# Altium schematic symbol library MH_DA_THU_VIEN_16122016.SchLib: 853 symbols (part 5 of 5)
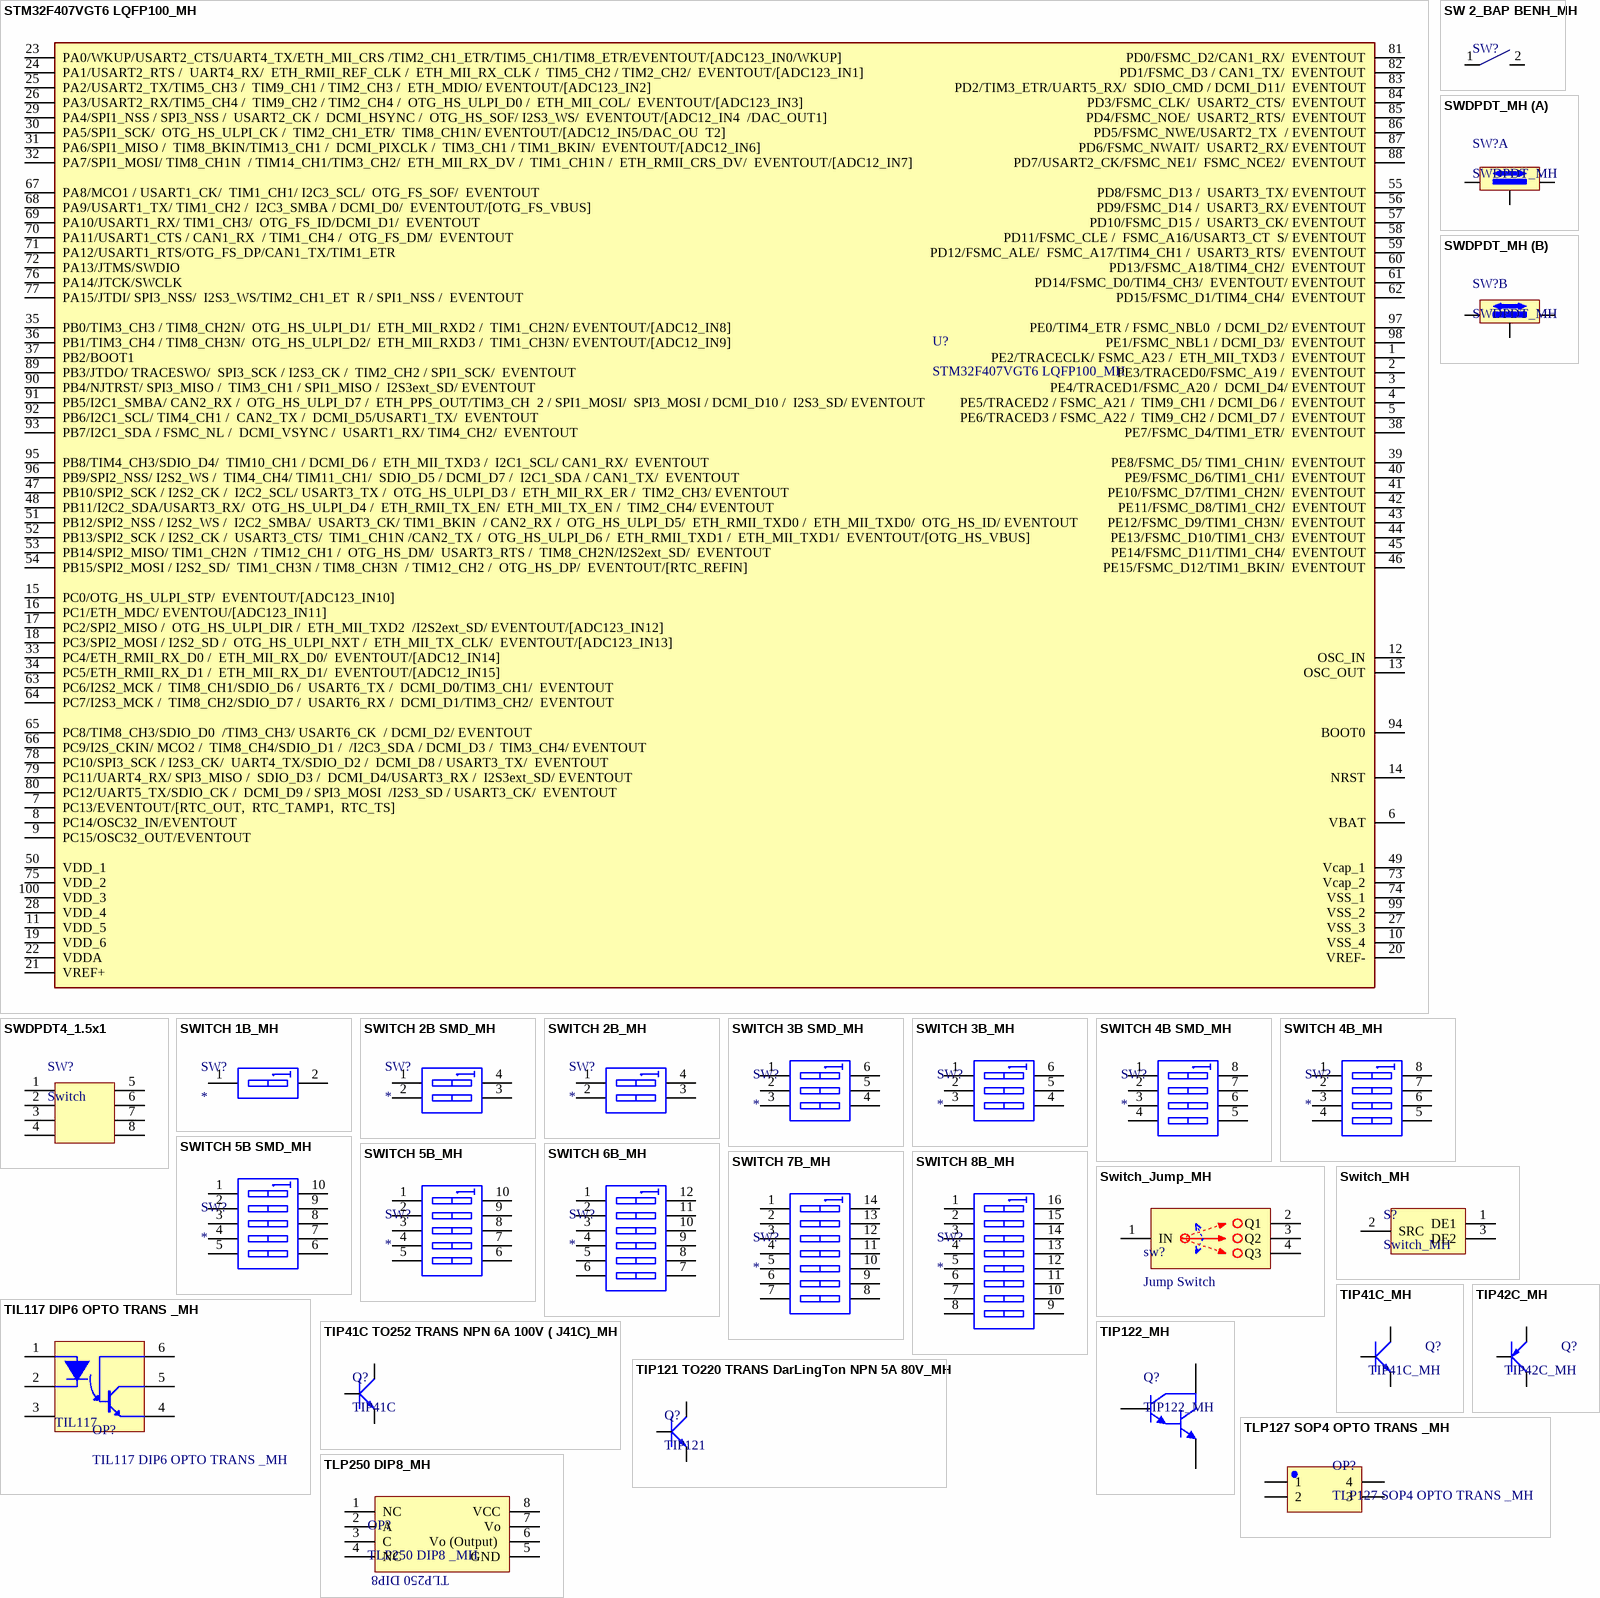
[diagram p44: symbols STM32F407VGT6 LQFP100_MH to TLP250 DIP8_MH]

## STM32F407VGT6 LQFP100_MH
designator U?
footprint LQFP 100
pins: 1 PE2/TRACECLK/ FSMC_A23 /  ETH_MII_TXD3 /  EVENTOUT, 2 PE3/TRACED0/FSMC_A19 /  EVENTOUT, 3 PE4/TRACED1/FSMC_A20 /  DCMI_D4/ EVENTOUT, 4 PE5/TRACED2 / FSMC_A21 /  TIM9_CH1 / DCMI_D6 /  EVENTOUT, 5 PE6/TRACED3 / FSMC_A22 /  TIM9_CH2 / DCMI_D7 /  EVENTOUT, 6 VBAT, 7 PC13/EVENTOUT/[RTC_OUT,  RTC_TAMP1,  RTC_TS], 8 PC14/OSC32_IN/EVENTOUT, 9 PC15/OSC32_OUT/EVENTOUT, 10 VSS_4, 11 VDD_5, 12 OSC_IN, 13 OSC_OUT, 14 NRST, 15 PC0/OTG_HS_ULPI_STP/  EVENTOUT/[ADC123_IN10], 16 PC1/ETH_MDC/ EVENTOU/[ADC123_IN11], 17 PC2/SPI2_MISO /  OTG_HS_ULPI_DIR /  ETH_MII_TXD2  /I2S2ext_SD/ EVENTOUT/[ADC123_IN12], 18 PC3/SPI2_MOSI / I2S2_SD /  OTG_HS_ULPI_NXT /  ETH_MII_TX_CLK/  EVENTOUT/[ADC123_IN13], 19 VDD_6, 20 VREF-, 21 VREF+, 22 VDDA, 23 PA0/WKUP/USART2_CTS/UART4_TX/ETH_MII_CRS /TIM2_CH1_ETR/TIM5_CH1/TIM8_ETR/EVENTOUT/[ADC123_IN0/WKUP], 24 PA1/USART2_RTS /  UART4_RX/  ETH_RMII_REF_CLK /  ETH_MII_RX_CLK /  TIM5_CH2 / TIM2_CH2/  EVENTOUT/[ADC123_IN1], 25 PA2/USART2_TX/TIM5_CH3 /  TIM9_CH1 / TIM2_CH3 /  ETH_MDIO/ EVENTOUT/[ADC123_IN2], 26 PA3/USART2_RX/TIM5_CH4 /  TIM9_CH2 / TIM2_CH4 /  OTG_HS_ULPI_D0 /  ETH_MII_COL/  EVENTOUT/[ADC123_IN3], 27 VSS_3, 28 VDD_4, 29 PA4/SPI1_NSS / SPI3_NSS /  USART2_CK /  DCMI_HSYNC /  OTG_HS_SOF/ I2S3_WS/  EVENTOUT/[ADC12_IN4  /DAC_OUT1], 30 PA5/SPI1_SCK/  OTG_HS_ULPI_CK /  TIM2_CH1_ETR/  TIM8_CH1N/ EVENTOUT/[ADC12_IN5/DAC_OU  T2], 31 PA6/SPI1_MISO /  TIM8_BKIN/TIM13_CH1 /  DCMI_PIXCLK /  TIM3_CH1 / TIM1_BKIN/  EVENTOUT/[ADC12_IN6], 32 PA7/SPI1_MOSI/ TIM8_CH1N  / TIM14_CH1/TIM3_CH2/  ETH_MII_RX_DV /  TIM1_CH1N /  ETH_RMII_CRS_DV/  EVENTOUT/[ADC12_IN7], 33 PC4/ETH_RMII_RX_D0 /  ETH_MII_RX_D0/  EVENTOUT/[ADC12_IN14], 34 PC5/ETH_RMII_RX_D1 /  ETH_MII_RX_D1/  EVENTOUT/[ADC12_IN15], 35 PB0/TIM3_CH3 / TIM8_CH2N/  OTG_HS_ULPI_D1/  ETH_MII_RXD2 /  TIM1_CH2N/ EVENTOUT/[ADC12_IN8], 36 PB1/TIM3_CH4 / TIM8_CH3N/  OTG_HS_ULPI_D2/  ETH_MII_RXD3 /  TIM1_CH3N/ EVENTOUT/[ADC12_IN9], 37 PB2/BOOT1  , 38 PE7/FSMC_D4/TIM1_ETR/  EVENTOUT, 39 PE8/FSMC_D5/ TIM1_CH1N/  EVENTOUT, 40 PE9/FSMC_D6/TIM1_CH1/  EVENTOUT, 41 PE10/FSMC_D7/TIM1_CH2N/  EVENTOUT, 42 PE11/FSMC_D8/TIM1_CH2/  EVENTOUT, 43 PE12/FSMC_D9/TIM1_CH3N/  EVENTOUT, 44 PE13/FSMC_D10/TIM1_CH3/  EVENTOUT, 45 PE14/FSMC_D11/TIM1_CH4/  EVENTOUT, 46 PE15/FSMC_D12/TIM1_BKIN/  EVENTOUT, 47 PB10/SPI2_SCK / I2S2_CK /  I2C2_SCL/ USART3_TX /  OTG_HS_ULPI_D3 /  ETH_MII_RX_ER /  TIM2_CH3/ EVENTOUT, 48 PB11/I2C2_SDA/USART3_RX/  OTG_HS_ULPI_D4 /  ETH_RMII_TX_EN/  ETH_MII_TX_EN /  TIM2_CH4/ EVENTOUT, 49 Vcap_1, 50 VDD_1, 51 PB12/SPI2_NSS / I2S2_WS /  I2C2_SMBA/  USART3_CK/ TIM1_BKIN  / CAN2_RX /  OTG_HS_ULPI_D5/  ETH_RMII_TXD0 /  ETH_MII_TXD0/  OTG_HS_ID/ EVENTOUT, 52 PB13/SPI2_SCK / I2S2_CK /  USART3_CTS/  TIM1_CH1N /CAN2_TX /  OTG_HS_ULPI_D6 /  ETH_RMII_TXD1 /  ETH_MII_TXD1/  EVENTOUT/[OTG_HS_VBUS], 53 PB14/SPI2_MISO/ TIM1_CH2N  / TIM12_CH1 /  OTG_HS_DM/  USART3_RTS /  TIM8_CH2N/I2S2ext_SD/  EVENTOUT, 54 PB15/SPI2_MOSI / I2S2_SD/  TIM1_CH3N / TIM8_CH3N  / TIM12_CH2 /  OTG_HS_DP/  EVENTOUT/[RTC_REFIN], 55 PD8/FSMC_D13 /  USART3_TX/ EVENTOUT, 56 PD9/FSMC_D14 /  USART3_RX/ EVENTOUT, 57 PD10/FSMC_D15 /  USART3_CK/ EVENTOUT, 58 PD11/FSMC_CLE /  FSMC_A16/USART3_CT  S/ EVENTOUT, 59 PD12/FSMC_ALE/  FSMC_A17/TIM4_CH1 /  USART3_RTS/  EVENTOUT, 60 PD13/FSMC_A18/TIM4_CH2/  EVENTOUT, 61 PD14/FSMC_D0/TIM4_CH3/  EVENTOUT/ EVENTOUT, 62 PD15/FSMC_D1/TIM4_CH4/  EVENTOUT, 63 PC6/I2S2_MCK /  TIM8_CH1/SDIO_D6 /  USART6_TX /  DCMI_D0/TIM3_CH1/  EVENTOUT, 64 PC7/I2S3_MCK /  TIM8_CH2/SDIO_D7 /  USART6_RX /  DCMI_D1/TIM3_CH2/  EVENTOUT, 65 PC8/TIM8_CH3/SDIO_D0  /TIM3_CH3/ USART6_CK  / DCMI_D2/ EVENTOUT, 66 PC9/I2S_CKIN/ MCO2 /  TIM8_CH4/SDIO_D1 /  /I2C3_SDA / DCMI_D3 /  TIM3_CH4/ EVENTOUT, 67 PA8/MCO1 / USART1_CK/  TIM1_CH1/ I2C3_SCL/  OTG_FS_SOF/  EVENTOUT, 68 PA9/USART1_TX/ TIM1_CH2 /  I2C3_SMBA / DCMI_D0/  EVENTOUT/[OTG_FS_VBUS], 69 PA10/USART1_RX/ TIM1_CH3/  OTG_FS_ID/DCMI_D1/  EVENTOUT, 70 PA11/USART1_CTS / CAN1_RX  / TIM1_CH4 /  OTG_FS_DM/  EVENTOUT, 71 PA12/USART1_RTS/OTG_FS_DP/CAN1_TX/TIM1_ETR  , 72 PA13/JTMS/SWDIO  , 73 Vcap_2, 74 VSS_1, 75 VDD_2, 76 PA14/JTCK/SWCLK  , 77 PA15/JTDI/ SPI3_NSS/  I2S3_WS/TIM2_CH1_ET  R / SPI1_NSS /  EVENTOUT, 78 PC10/SPI3_SCK / I2S3_CK/  UART4_TX/SDIO_D2 /  DCMI_D8 / USART3_TX/  EVENTOUT, 79 PC11/UART4_RX/ SPI3_MISO /  SDIO_D3 /  DCMI_D4/USART3_RX /  I2S3ext_SD/ EVENTOUT, 80 PC12/UART5_TX/SDIO_CK /  DCMI_D9 / SPI3_MOSI  /I2S3_SD / USART3_CK/  EVENTOUT, 81 PD0/FSMC_D2/CAN1_RX/  EVENTOUT, 82 PD1/FSMC_D3 / CAN1_TX/  EVENTOUT, 83 PD2/TIM3_ETR/UART5_RX/  SDIO_CMD / DCMI_D11/  EVENTOUT, 84 PD3/FSMC_CLK/  USART2_CTS/  EVENTOUT, 85 PD4/FSMC_NOE/  USART2_RTS/  EVENTOUT, 86 PD5/FSMC_NWE/USART2_TX  / EVENTOUT, 87 PD6/FSMC_NWAIT/  USART2_RX/ EVENTOUT, 88 PD7/USART2_CK/FSMC_NE1/  FSMC_NCE2/  EVENTOUT, 89 PB3/JTDO/ TRACESWO/  SPI3_SCK / I2S3_CK /  TIM2_CH2 / SPI1_SCK/  EVENTOUT, 90 PB4/NJTRST/ SPI3_MISO /  TIM3_CH1 / SPI1_MISO /  I2S3ext_SD/ EVENTOUT, 91 PB5/I2C1_SMBA/ CAN2_RX /  OTG_HS_ULPI_D7 /  ETH_PPS_OUT/TIM3_CH  2 / SPI1_MOSI/  SPI3_MOSI / DCMI_D10 /  I2S3_SD/ EVENTOUT, 92 PB6/I2C1_SCL/ TIM4_CH1 /  CAN2_TX /  DCMI_D5/USART1_TX/  EVENTOUT, 93 PB7/I2C1_SDA / FSMC_NL /  DCMI_VSYNC /  USART1_RX/ TIM4_CH2/  EVENTOUT, 94 BOOT0, 95 PB8/TIM4_CH3/SDIO_D4/  TIM10_CH1 / DCMI_D6 /  ETH_MII_TXD3 /  I2C1_SCL/ CAN1_RX/  EVENTOUT, 96 PB9/SPI2_NSS/ I2S2_WS /  TIM4_CH4/ TIM11_CH1/  SDIO_D5 / DCMI_D7 /  I2C1_SDA / CAN1_TX/  EVENTOUT, 97 PE0/TIM4_ETR / FSMC_NBL0  / DCMI_D2/ EVENTOUT, 98 PE1/FSMC_NBL1 / DCMI_D3/  EVENTOUT, 99 VSS_2, 100 VDD_3

## SW 2_BAP BENH_MH
designator SW?  (value not drawn)
Công tắc bập bênh 2 chân MH001568
footprint SW2_ BAP BENH (Công t?c b?p bênh 2 chân MH004585)
pins: 1, 2

## SWDPDT4_1.5x1
designator SW?, comment Switch
Switch 1-3 x2
footprint SWDPDT4_1.5x1 (Switch 3 DPDT, Pin to Pin 150mil, Row to Row 100mil)
pins: 1, 2, 3, 4, 5, 6, 7, 8

## SWDPDT_MH
designator SW?
Switch SPDT; Creat by: VanDungEvn@Gmail.com
footprint SWDPDT_1.5x1 (Switch DPDT, Pin to Pin 150mil, Row to Row 100mil)
footprint SWDPDT_1.5x2 (Switch DPDT, Pin to Pin 150mil, Row to Row 200mil)
part A pins: 1, 2, 3
part B pins: 4, 5, 6

## SWITCH 1B_MH
designator SW?
Công tắc bit, 1Bit
footprint SWITCH 1B
pins: 1 A1, 2 B1

## SWITCH 2B SMD_MH
designator SW?
Công tắc bit, 2Bit, dán
footprint SWITCH 2B SMD
pins: 1 A1, 2 A2, 3 B2, 4 B1

## SWITCH 2B_MH
designator SW?
Công tắc bit, 2Bit
footprint SWITCH 2B
pins: 1 A1, 2 A2, 3 B2, 4 B1

## SWITCH 3B SMD_MH
designator SW?
Công tắc bit, 3Bit, dán
footprint SWITCH 3B SMD
pins: 1 A1, 2 A2, 3 A3, 4 B3, 5 B2, 6 B1

## SWITCH 3B_MH
designator SW?
Công tắc bit, 3Bit
footprint SWITCH 3B
pins: 1 A1, 2 A2, 3 A3, 4 B3, 5 B2, 6 B1

## SWITCH 4B SMD_MH
designator SW?
Công tắc bit, 4Bit, dán
footprint SWITCH 4B SMD
pins: 1 A1, 2 A2, 3 A3, 4 A4, 5 B4, 6 B3, 7 B2, 8 B1

## SWITCH 4B_MH
designator SW?
Công tắc bit, 4Bit
footprint SWITCH 4B
pins: 1 A1, 2 A2, 3 A3, 4 A4, 5 B4, 6 B3, 7 B2, 8 B1

## SWITCH 5B SMD_MH
designator SW?
Công tắc bit, 5Bit, dán
footprint SWITCH 5B SMD
pins: 1 A1, 2 A2, 3 A3, 4 A4, 5 A5, 6 B5, 7 B4, 8 B3, 9 B2, 10 B1

## SWITCH 5B_MH
designator SW?
Công tắc bit, 5Bit
footprint SWITCH 5B
pins: 1 A1, 2 A2, 3 A3, 4 A4, 5 A5, 6 B5, 7 B4, 8 B3, 9 B2, 10 B1

## SWITCH 6B_MH
designator SW?
Công tắc bit, 6Bit
footprint SWITCH 6B
pins: 1 A1, 2 A2, 3 A3, 4 A4, 5 A5, 6 A6, 7 B6, 8 B5, 9 B4, 10 B3, 11 B2, 12 B1

## SWITCH 7B_MH
designator SW?
Công tắc bit, 7Bit
footprint SWITCH 7B
pins: 1 A1, 2 A2, 3 A3, 4 A4, 5 A5, 6 A6, 7 A7, 8 B7, 9 B6, 10 B5, 11 B4, 12 B3, 13 B2, 14 B1

## SWITCH 8B_MH
designator SW?
Công tắc bit, 8Bit
footprint SWITCH 8B
pins: 1 A1, 2 A2, 3 A3, 4 A4, 5 A5, 6 A6, 7 A7, 8 A8, 9 B8, 10 B7, 11 B6, 12 B5, 13 B4, 14 B3, 15 B2, 16 B1

## Switch_Jump_MH
designator sw?, comment Jump Switch
footprint SW-Jump
pins: 1 IN, 2 Q1, 3 Q2, 4 Q3

## Switch_MH
designator S?
Switch
footprint Switch
pins: 1 DE1, 2 SRC, 3 DE2, 4 hidden to GND, 5 hidden to GND

## TIL117 DIP6 OPTO TRANS _MH
designator OP?
footprint DIP6 (6 PIN, W 300mil, Pin to pin 100mil)
pins: 1 "Anot", 2 "Katot", 3, 4, 5, 6
text: TIL117

## TIP41C TO252 TRANS NPN 6A 100V ( J41C)_MH
designator Q?, comment TIP41C
footprint TO252
pins: 1 B, 2 C, 3 E

## TIP41C_MH
designator Q?
NPN 2W, BCE; Value: TIP41C
footprint TO220
pins: 1 B, 2 C, 3 E

## TIP42C_MH
designator Q?
PNP 2W, BCE; Value: TIP42C
footprint TO220
pins: 1 B, 2 C, 3 E

## TIP121 TO220 TRANS DarLingTon NPN 5A 80V_MH
designator Q?, comment TIP121
footprint TO220
pins: 1 B, 2 C, 3 E

## TIP122_MH
designator Q?
Darlington Silicon Power NPN Transistor, 8 Amp, 100 Volts and 65 Watts
footprint TO220
pins: 1 B, 2 C, 3 E

## TLP127 SOP4 OPTO TRANS _MH
designator OP?
footprint OP SOP4
pins: 1, 2, 3, 4

## TLP250 DIP8_MH
designator OP?, comment TLP250 DIP8 _MH
TLP250 DIP8_MH
footprint DIP8 (W.300/L.400)
pins: 1 NC, 2 A, 3 C, 4 NC, 5 GND, 6  Vo (Output) , 7 Vo, 8 VCC
text: TLP250 DIP8

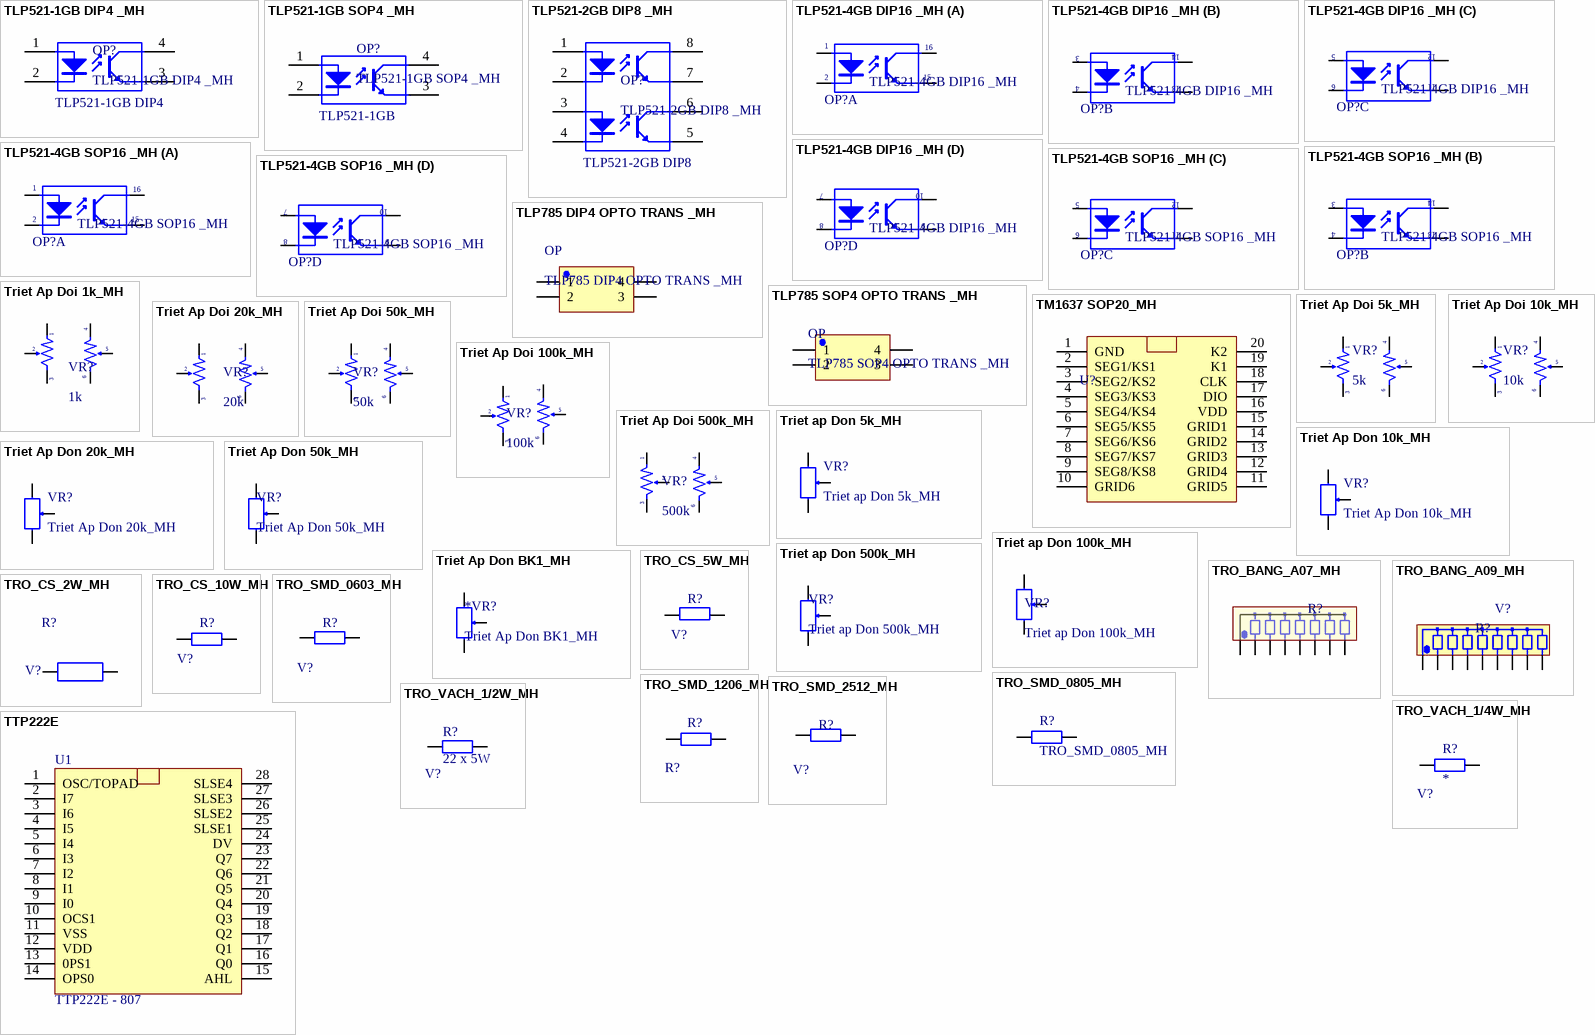
[diagram p36: symbols TLP521-1GB DIP4 _MH to TTP222E]

## TLP521-1GB DIP4 _MH
designator OP?
footprint DIP4 (W.300/L.400)
pins: 1, 2, 3, 4
text: TLP521-1GB DIP4

## TLP521-1GB SOP4 _MH
designator OP?
footprint OP SOP4
pins: 1, 2, 3, 4
text: TLP521-1GB

## TLP521-2GB DIP8 _MH
designator OP?
footprint DIP8 (W.300/L.400)
pins: 1, 2, 3, 4, 5, 6, 7, 8
text: TLP521-2GB DIP8

## TLP521-4GB DIP16 _MH
designator OP?
Value: TLP521-4
footprint DIP16 (16 PIN, W 300mil, Pin to pin 100mil)
part A pins: 1 A "Anode", 2 K "Cathode", 15 E "Emitter", 16 C "Collector"
part B pins: 3 A "Anode", 4 K "Cathode", 13 E "Emitter", 14 C "Collector"
part C pins: 5 A "Anode", 6 K "Cathode", 11 E "Emitter", 12 C "Collector"
part D pins: 7 A "Anode", 8 K "Cathode", 9 E "Emitter", 10 C "Collector"

## TLP521-4GB SOP16 _MH
designator OP?
Value: TLP521-4
footprint SOP16 (Small Outline; 16 Leads; Body Width 5.6 mm; Pitch 1.27 mm)
part A pins: 1 A "Anode", 2 K "Cathode", 15 E "Emitter", 16 C "Collector"
part B pins: 3 A "Anode", 4 K "Cathode", 13 E "Emitter", 14 C "Collector"
part C pins: 5 A "Anode", 6 K "Cathode", 11 E "Emitter", 12 C "Collector"
part D pins: 7 A "Anode", 8 K "Cathode", 9 E "Emitter", 10 C "Collector"

## TLP785 DIP4 OPTO TRANS _MH
designator OP
footprint DIP4 (W.300/L.400)
pins: 1, 2, 3, 4

## TLP785 SOP4 OPTO TRANS _MH
designator OP
OPTO
footprint OP SOP4
pins: 1, 2, 3, 4

## TM1637 SOP20_MH
designator U?  (value not drawn)
DRIVER LED 7 SEG
footprint SOP-20
pins: 1 GND, 2 SEG1/KS1, 3 SEG2/KS2, 4 SEG3/KS3, 5 SEG4/KS4, 6 SEG5/KS5, 7 SEG6/KS6, 8 SEG7/KS7, 9 SEG8/KS8, 10 GRID6, 11 GRID5, 12 GRID4, 13 GRID3, 14 GRID2, 15 GRID1, 16 VDD, 17 DIO, 18 CLK, 19 K1, 20 K2

## Triet Ap Doi 1k_MH
designator VR?, comment 1k
Triet Ap Doi 1k
footprint VR2-B
pins: 1, 2, 3, 4, 5, 6

## Triet Ap Doi 5k_MH
designator VR?, comment 5k
Triet Ap Doi 5k
footprint VR2-B
pins: 1, 2, 3, 4, 5, 6

## Triet Ap Doi 10k_MH
designator VR?, comment 10k
Triet Ap Doi 10k
footprint VR2-B
pins: 1, 2, 3, 4, 5, 6

## Triet Ap Doi 20k_MH
designator VR?, comment 20k
Triet Ap Doi 20k
footprint VR2-B
pins: 1, 2, 3, 4, 5, 6

## Triet Ap Doi 50k_MH
designator VR?, comment 50k
Triet Ap Doi 50k
footprint VR2-B
pins: 1, 2, 3, 4, 5, 6

## Triet Ap Doi 100k_MH
designator VR?, comment 100k
Triet Ap Doi 100k
footprint VR2-B
pins: 1, 2, 3, 4, 5, 6

## Triet Ap Doi 500k_MH
designator VR?, comment 500k
Triet Ap Doi 500k
footprint VR2-B
pins: 1, 2, 3, 4, 5, 6

## Triet ap Don 5k_MH
designator VR?
Triet ap Don 5k
footprint VR1-bk
pins: 1, 2, 3

## Triet Ap Don 10k_MH
designator VR?
Triet Ap Don 10k
footprint VR1-bk
pins: 1, 2, 3

## Triet Ap Don 20k_MH
designator VR?
Triet Ap Don 20k
footprint VR1-bk
pins: 1, 2, 3

## Triet Ap Don 50k_MH
designator VR?
Triet Ap Don 50k
footprint VR1-bk
pins: 1, 2, 3

## Triet ap Don 100k_MH
designator VR?
Triet ap Don 100k
footprint VR1-bk
pins: 1, 2, 3

## Triet ap Don 500k_MH
designator VR?
Triet ap Don 500k
footprint VR1-bk
pins: 1, 2, 3

## Triet Ap Don BK1_MH
designator *VR?
Triet Ap Don BK1
footprint VR1-bk
pins: 1, 2, 3

## TRO_BANG_A07_MH
designator R?
footprint TRO_BANG_A07 (Footprint not found)
pins: 1, 2, 3, 4, 5, 6, 7, 8

## TRO_BANG_A09_MH
designator R?
footprint TRO_BANG_A09 (R SIP8, 9 Pin)
pins: 1, 2, 3, 4, 5, 6, 7, 8, 9
text: V?

## TRO_CS_2W_MH
designator R?  value V?
footprint TRO_VACH_2W
pins: 1, 2

## TRO_CS_5W_MH
designator R?
footprint TRO_CONG_SUAT_5W
pins: 1, 2
text: V?

## TRO_CS_10W_MH
designator R?
TRO_CONG_SUAT_10W
footprint TRO_CONG_SUAT_10W
pins: 1, 2
text: V?

## TRO_SMD_0603_MH
designator R?
footprint TRO_SMD_0603
pins: 1, 2
text: V?

## TRO_SMD_0805_MH
designator R?
footprint Tro SMD 0805
pins: 1, 2

## TRO_SMD_1206_MH
designator R?
footprint TRO_SMD_1206
pins: 1, 2

## TRO_SMD_2512_MH
designator R?
footprint TRO SMD 2512
pins: 1, 2
text: V?

## TRO_VACH_1/2W_MH
designator R?, comment 22 x 5W
Resistor; Value: 1K; Published: 8-Jun-2000; LatestRevisionDate: 17-Jul-2002; LatestRevisionNote: Re-released for DXP Platform.; Publisher: Altium Limited
footprint TRO_VACH_ 1/4W (R 1/4W, 2 Pin, 350mil)
pins: 1, 2
text: V?

## TRO_VACH_1/4W_MH
designator R?
footprint TRO_VACH_ 1/4W (R 1/4W, 2 Pin, 350mil)
pins: 1, 2
text: V?

## TTP222E
designator U1, comment TTP222E - 807
footprint TSSOP28
pins: 1 OSC/TOPAD "Description", 2 I7, 3 I6, 4 I5, 5 I4, 6 I3, 7 I2, 8 I1, 9 I0, 10 OCS1, 11 VSS, 12 VDD, 13 0PS1, 14 OPS0, 15 AHL, 16 Q0, 17 Q1, 18 Q2, 19 Q3, 20 Q4, 21 Q5, 22 Q6, 23 Q7, 24 DV, 25 SLSE1, 26 SLSE2, 27 SLSE3, 28 SLSE4

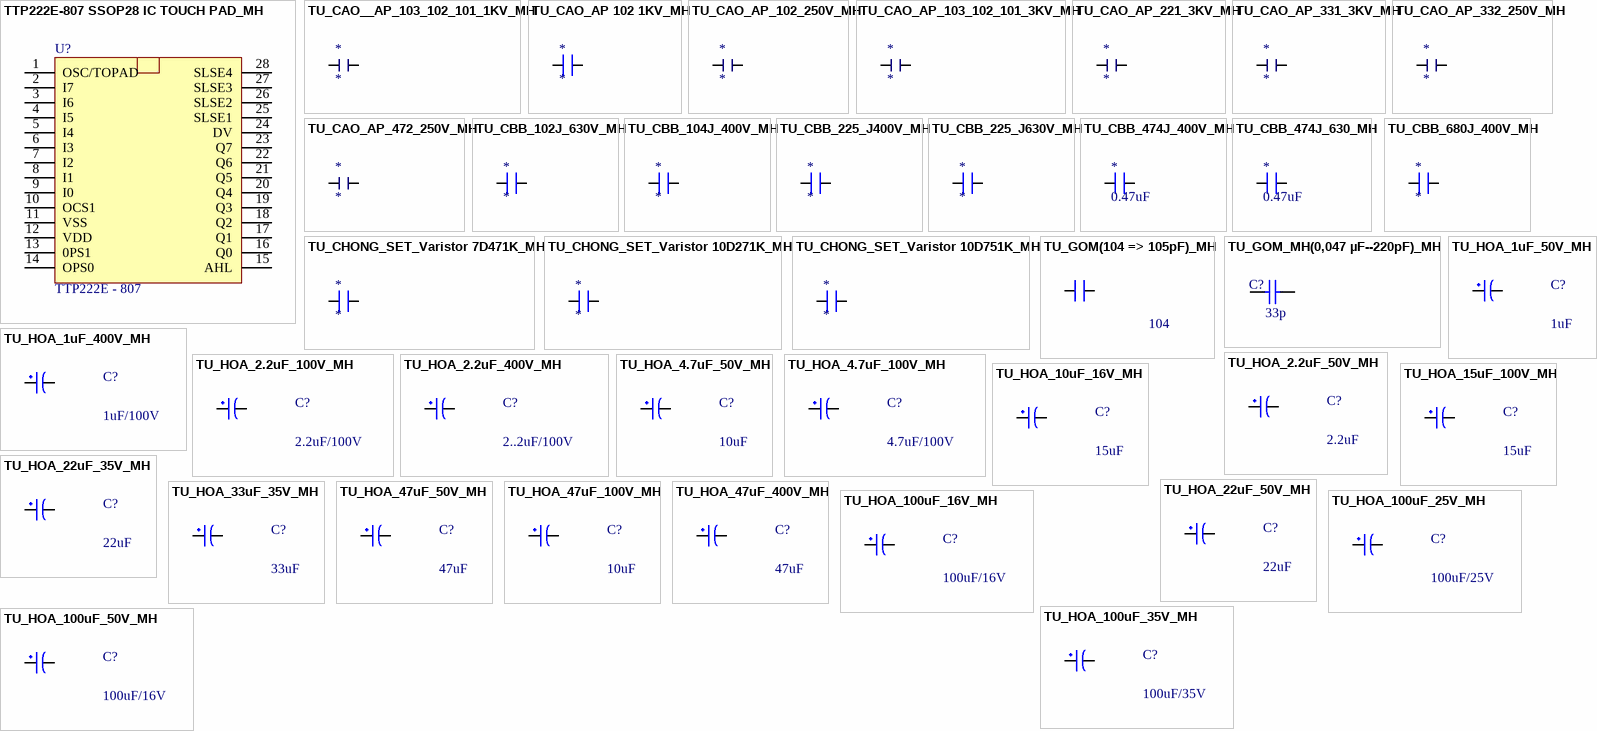
[diagram p37: symbols TTP222E-807 SSOP28 IC TOUCH PAD_MH to TU_HOA_100uF_50V_MH]

## TTP222E-807 SSOP28 IC TOUCH PAD_MH
designator U?, comment TTP222E - 807
footprint TSSOP28
pins: 1 OSC/TOPAD "Description", 2 I7, 3 I6, 4 I5, 5 I4, 6 I3, 7 I2, 8 I1, 9 I0, 10 OCS1, 11 VSS, 12 VDD, 13 0PS1, 14 OPS0, 15 AHL, 16 Q0, 17 Q1, 18 Q2, 19 Q3, 20 Q4, 21 Q5, 22 Q6, 23 Q7, 24 DV, 25 SLSE1, 26 SLSE2, 27 SLSE3, 28 SLSE4

## TU_CAO__AP_103_102_101_1KV_MH
designator *
Tu 104 103 102 101 1KV
footprint TU_TATA_5.08
pins: 1, 2

## TU_CAO_AP 102 1KV_MH
designator *
footprint TU_CAO_AP_1KV
pins: 1, 2

## TU_CAO_AP_102_250V_MH
designator *
Tụ Cao Áp 102 250V
footprint TU_CCB_10
pins: 1, 2

## TU_CAO_AP_103_102_101_3KV_MH
designator *
Tu 104 103 102 101 3KV
footprint TU_MICA_6_MH
pins: 1, 2

## TU_CAO_AP_221_3KV_MH
designator *
Tụ Cao Áp 221 3KV
footprint TU_MICA_6_MH
pins: 1, 2

## TU_CAO_AP_331_3KV_MH
designator *
Tụ Cao Áp 331 3KV
footprint TU_MICA_6_MH
pins: 1, 2

## TU_CAO_AP_332_250V_MH
designator *
Tụ Cao Áp 332 250V
footprint TU_MICA_6_MH
pins: 1, 2

## TU_CAO_AP_472_250V_MH
designator *
Tụ Cao Áp 472 250V
footprint TU_MICA_6_MH
pins: 1, 2

## TU_CBB_102J_630V_MH
designator *
TU_CBB_102J_630V_MH
footprint TU_CCB_10
pins: 1, 2

## TU_CBB_104J_400V_MH
designator *
TU_CBB_104J_400V_MH
footprint TU_CCB_10
pins: 1, 2

## TU_CBB_225_J400V_MH
designator *
footprint TU_CCB_225J400V
pins: 1, 2

## TU_CBB_225_J630V_MH
designator *
footprint TU_CCB_225J_630V _MH
pins: 1, 2

## TU_CBB_474J_400V_MH
designator *, comment 0.47uF
Tụ CBB 474J-0.47uF 400V 15MM
footprint TU_CCB_474J_400V
pins: 1, 2

## TU_CBB_474J_630_MH
designator *, comment 0.47uF
Tụ CBB 474J-0.47uF 630V 19MM
footprint TU_CCB_474J_630V
pins: 1, 2

## TU_CBB_680J_400V_MH
designator *
TU_CBB_680J_400V_MH
footprint TU_CCB_10
pins: 1, 2

## TU_CHONG_SET_Varistor 7D471K_MH
designator *
footprint TDA7294
pins: 1, 2

## TU_CHONG_SET_Varistor 10D271K_MH
designator *
footprint VARSISTOR_10D_14D (VARSISTOR_10D)
pins: 1, 2

## TU_CHONG_SET_Varistor 10D751K_MH
designator *
footprint VARSISTOR_10D_14D (VARSISTOR_10D)
pins: 1, 2

## TU_GOM(104 => 105pF)_MH
designator ?, comment 104
Value: 0.1uF
footprint TU_GOM(104-->105pF)
pins: 1, 2

## TU_GOM_MH(0,047 µF--220pF)_MH
designator C?, comment value 33p  (hidden comment: Capacitor Ceramic)
Capacitor; Published: 8-Jun-2000; LatestRevisionDate: 17-Jul-2002; LatestRevisionNote: Re-released for DXP Platform.; PackageReference: RAD-0.3; Publisher: Altium Limited
footprint TU_GOM (Tu gom mini)
pins: 1, 2

## TU_HOA_1uF_50V_MH
designator C?, comment 1uF
TU_HOA_1uF_50V; Value: 10uF/50V; Description 1: 10 => 220uF/6,3V/10V - 10uF => 100uF/16V; Description 2: 0,1uF => 33uF/50V - 10uF => 22uF/63V; Description 3: 0,47uF => 10uF/100V
footprint CP1/2 (Tu hoa < 22uF/16>50V)
footprint TU_HOA(1uF< 22uF/16>50V) (Tu hoa < 22uF/16>50V)
pins: 1, 2
1 alternate drawing of the same symbol

## TU_HOA_1uF_400V_MH
designator C?, comment 1uF/100V
TU_HOA_1uF_400V_MH; Value: 4700uF/50V
footprint CP2/5 (Tu hoa 1000uF/25V,50V)
pins: 1, 2

## TU_HOA_2.2uF_50V_MH
designator C?, comment 2.2uF
TU_HOA_2.2uF_50V; Value: 10uF/50V; Description 1: 10 => 220uF/6,3V/10V - 10uF => 100uF/16V; Description 2: 0,1uF => 33uF/50V - 10uF => 22uF/63V; Description 3: 0,47uF => 10uF/100V
footprint CP1/2 (Tu hoa < 22uF/16>50V)
footprint TU_HOA(1uF< 22uF/16>50V) (Tu hoa < 22uF/16>50V)
pins: 1, 2
1 alternate drawing of the same symbol

## TU_HOA_2.2uF_100V_MH
designator C?, comment 2.2uF/100V
TU_HOA_2.2uF_100V_MH; Value: 4700uF/50V
footprint CP1/3.0
footprint CP1/3.0
pins: 1, 2

## TU_HOA_2.2uF_400V_MH
designator C?, comment 2..2uF/100V
TU_HOA_2.2uF_400V_MH; Value: 4700uF/50V
footprint CP1/3.0
pins: 1, 2

## TU_HOA_4.7uF_50V_MH
designator C?, comment 10uF
Cap P  0,1uF < 22uF , 16 - 50V; Value: 10uF/50V; Description 1: 10 => 220uF/6,3V/10V - 10uF => 100uF/16V; Description 2: 0,1uF => 33uF/50V - 10uF => 22uF/63V; Description 3: 0,47uF => 10uF/100V
footprint CP1/2 (Tu hoa < 22uF/16>50V)
footprint TU_HOA(1uF< 22uF/16>50V) (Tu hoa < 22uF/16>50V)
pins: 1, 2
1 alternate drawing of the same symbol

## TU_HOA_4.7uF_100V_MH
designator C?, comment 4.7uF/100V
TU_HOA_4.7uF_100V_MH; Value: 4700uF/50V
footprint CP1/3.0
pins: 1, 2

## TU_HOA_10uF_16V_MH
designator C?, comment 15uF
TU_HOA_15uF_100V_MH; Value: 10uF/50V; Description 1: 10 => 220uF/6,3V/10V - 10uF => 100uF/16V; Description 2: 0,1uF => 33uF/50V - 10uF => 22uF/63V; Description 3: 0,47uF => 10uF/100V
footprint TU_NHOM_10uF_MH
pins: 1, 2
1 alternate drawing of the same symbol

## TU_HOA_15uF_100V_MH
designator C?, comment 15uF
TU_HOA_15uF_100V_MH; Value: 10uF/50V; Description 1: 10 => 220uF/6,3V/10V - 10uF => 100uF/16V; Description 2: 0,1uF => 33uF/50V - 10uF => 22uF/63V; Description 3: 0,47uF => 10uF/100V
footprint CP2/5 (Tu hoa 1000uF/25V,50V)
pins: 1, 2
1 alternate drawing of the same symbol

## TU_HOA_22uF_35V_MH
designator C?, comment 22uF
TU_HOA_22uF_35V; Value: 10uF/50V; Description 1: 10 => 220uF/6,3V/10V - 10uF => 100uF/16V; Description 2: 0,1uF => 33uF/50V - 10uF => 22uF/63V; Description 3: 0,47uF => 10uF/100V
footprint CP1/2 (Tu hoa < 22uF/16>50V)
footprint TU_HOA(1uF< 22uF/16>50V) (Tu hoa < 22uF/16>50V)
pins: 1, 2
1 alternate drawing of the same symbol

## TU_HOA_22uF_50V_MH
designator C?, comment 22uF
TU_HOA_22uF_50V; Value: 10uF/50V; Description 1: 10 => 220uF/6,3V/10V - 10uF => 100uF/16V; Description 2: 0,1uF => 33uF/50V - 10uF => 22uF/63V; Description 3: 0,47uF => 10uF/100V
footprint CP1/2 (Tu hoa < 22uF/16>50V)
footprint TU_HOA(1uF< 22uF/16>50V) (Tu hoa < 22uF/16>50V)
pins: 1, 2
1 alternate drawing of the same symbol

## TU_HOA_33uF_35V_MH
designator C?, comment 33uF
TU_HOA_33uF_35V; Value: 10uF/50V; Description 1: 10 => 220uF/6,3V/10V - 10uF => 100uF/16V; Description 2: 0,1uF => 33uF/50V - 10uF => 22uF/63V; Description 3: 0,47uF => 10uF/100V
footprint CP1/2 (Tu hoa < 22uF/16>50V)
footprint TU_HOA(1uF< 22uF/16>50V) (Tu hoa < 22uF/16>50V)
pins: 1, 2
1 alternate drawing of the same symbol

## TU_HOA_47uF_50V_MH
designator C?, comment 47uF
TU_HOA_47uF_50V; Value: 47uF/16 - 50V; Description 1: 470uF/6,3V - 330uF/10V - 220uF/16V; Description 2: 100uF/25V - 35V - 47uF/50V - 22uF/100V; Description 3: 33uF => 47uF/63V - 1uF => 4,7uF/160V; Description 4: 1uF => 2,2uF/250V - 1uF/350V
footprint TU_HOA(47uF---220uF/16V,25V)
pins: 1, 2

## TU_HOA_47uF_100V_MH
designator C?, comment 10uF
TU_HOA_47uF_100V_MH; Value: 10uF/50V; Description 1: 10 => 220uF/6,3V/10V - 10uF => 100uF/16V; Description 2: 0,1uF => 33uF/50V - 10uF => 22uF/63V; Description 3: 0,47uF => 10uF/100V
footprint CP2/5 (Tu hoa 1000uF/25V,50V)
pins: 1, 2
1 alternate drawing of the same symbol

## TU_HOA_47uF_400V_MH
designator C?, comment 47uF
TU_HOA_47uF_400V; Value: 10uF/50V; Description 1: 10 => 220uF/6,3V/10V - 10uF => 100uF/16V; Description 2: 0,1uF => 33uF/50V - 10uF => 22uF/63V; Description 3: 0,47uF => 10uF/100V
footprint CP3/7 (Tu hoa 4700uF/25V)
pins: 1, 2
1 alternate drawing of the same symbol

## TU_HOA_100uF_16V_MH
designator C?, comment 100uF/16V
TU_HOA_100uF_16V; Value: 100uF/35V/50V; Description 1: 1000uF/6,3V - 470uF/16V - 330uF - 25V; Description 2: 220uF/35V - 100uF/50V - 63V - 4,7uF/200V; Description 3: 22uF => 33uF100V - 3,3uF => 4,7uF/250V; Description 4: 2,2uF =>3,3uF/350 - 2,2uF/400V - 1uF/450V
footprint TU_HOA(47uF---220uF/16V,25V)
pins: 1, 2

## TU_HOA_100uF_25V_MH
designator C?, comment 100uF/25V
TU_HOA_100uF_25V; Value: 100uF/35V/50V; Description 1: 1000uF/6,3V - 470uF/16V - 330uF - 25V; Description 2: 220uF/35V - 100uF/50V - 63V - 4,7uF/200V; Description 3: 22uF => 33uF100V - 3,3uF => 4,7uF/250V; Description 4: 2,2uF =>3,3uF/350 - 2,2uF/400V - 1uF/450V
footprint TU_HOA(47uF---220uF/16V,25V)
pins: 1, 2

## TU_HOA_100uF_35V_MH
designator C?, comment 100uF/35V
TU_HOA_100uF_35V; Value: 100uF/35V/50V; Description 1: 1000uF/6,3V - 470uF/16V - 330uF - 25V; Description 2: 220uF/35V - 100uF/50V - 63V - 4,7uF/200V; Description 3: 22uF => 33uF100V - 3,3uF => 4,7uF/250V; Description 4: 2,2uF =>3,3uF/350 - 2,2uF/400V - 1uF/450V
footprint TU_HOA(100uF/35V - 470uF/16V)
footprint TU_HOA(100uF/35V - 470uF/16V)
pins: 1, 2

## TU_HOA_100uF_50V_MH
designator C?, comment 100uF/16V
TU_HOA_100uF_50V; Value: 100uF/35V/50V; Description 1: 1000uF/6,3V - 470uF/16V - 330uF - 25V; Description 2: 220uF/35V - 100uF/50V - 63V - 4,7uF/200V; Description 3: 22uF => 33uF100V - 3,3uF => 4,7uF/250V; Description 4: 2,2uF =>3,3uF/350 - 2,2uF/400V - 1uF/450V
footprint TU_HOA(100uF/35V - 470uF/16V)
footprint TU_HOA(100uF/35V - 470uF/16V)
pins: 1, 2

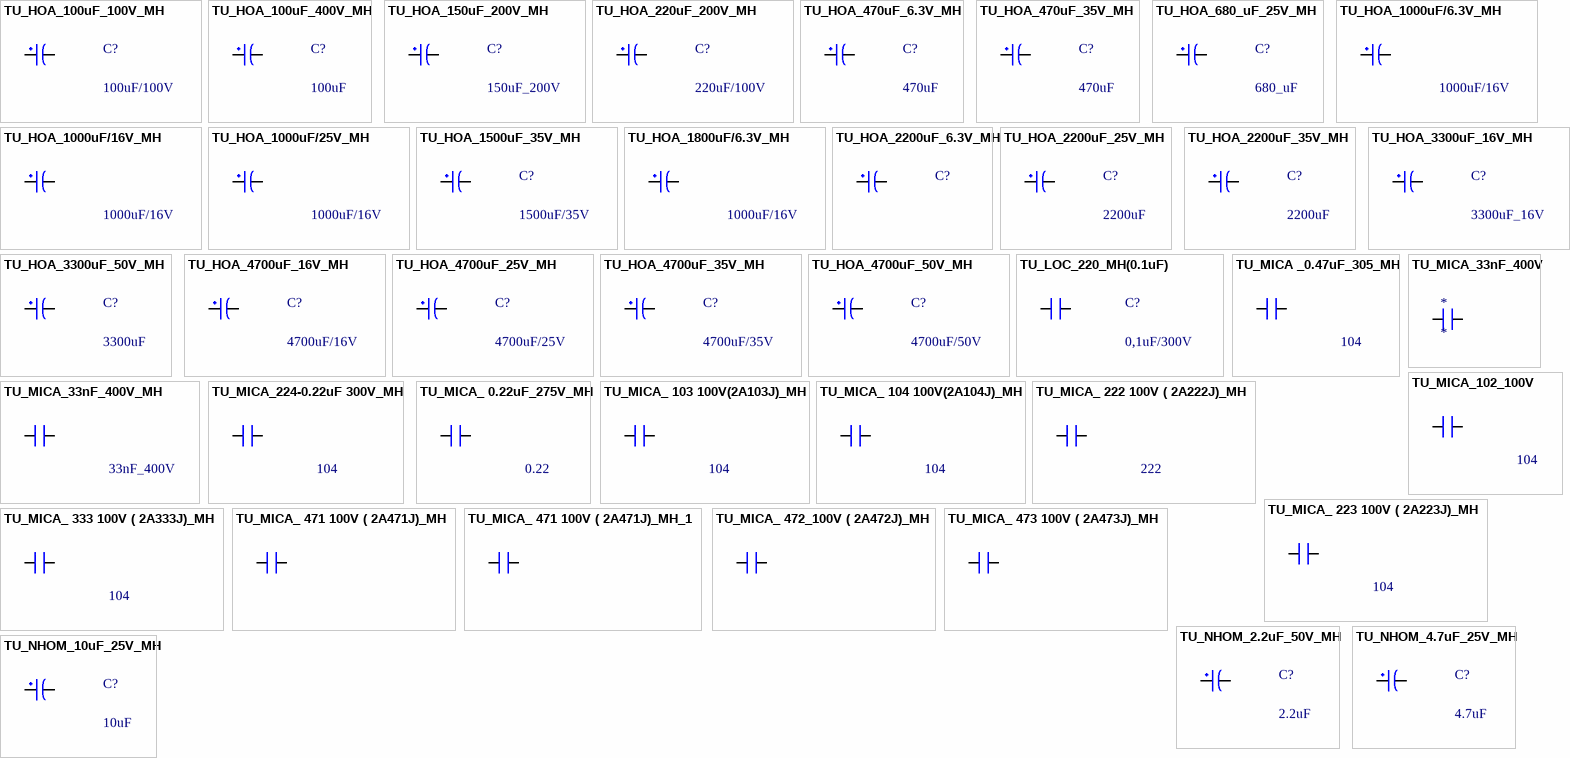
[diagram p38: symbols TU_HOA_100uF_100V_MH to TU_NHOM_10uF_25V_MH]

## TU_HOA_100uF_100V_MH
designator C?, comment 100uF/100V
TU_HOA_100uF_100V_MH; Value: 4700uF/50V
footprint CP2/5 (Tu hoa 1000uF/25V,50V)
pins: 1, 2

## TU_HOA_100uF_400V_MH
designator C?, comment 100uF
TU_HOA_100uF_400V; Value: 10uF/50V; Description 1: 10 => 220uF/6,3V/10V - 10uF => 100uF/16V; Description 2: 0,1uF => 33uF/50V - 10uF => 22uF/63V; Description 3: 0,47uF => 10uF/100V
footprint CP3/7 (Tu hoa 4700uF/25V)
pins: 1, 2
1 alternate drawing of the same symbol

## TU_HOA_150uF_200V_MH
designator C?, comment 150uF_200V
TU_HOA_150uF_200V_MH; Value: 4700uF/50V
footprint CP2/5 (Tu hoa 1000uF/25V,50V)
pins: 1, 2

## TU_HOA_220uF_200V_MH
designator C?, comment 220uF/100V
TU_HOA_220uF_200V_MH; Value: 4700uF/50V
footprint CP2/5 (Tu hoa 1000uF/25V,50V)
pins: 1, 2

## TU_HOA_470uF_6.3V_MH
designator C?, comment 470uF
Value: 100uF/35V/50V; Description 1: 1000uF/6,3V - 470uF/16V - 330uF - 25V; Description 2: 220uF/35V - 100uF/50V - 63V - 4,7uF/200V; Description 3: 22uF => 33uF100V - 3,3uF => 4,7uF/250V; Description 4: 2,2uF =>3,3uF/350 - 2,2uF/400V - 1uF/450V
footprint TU_HOA(100uF/35V - 470uF/16V)
pins: 1, 2

## TU_HOA_470uF_35V_MH
designator C?, comment 470uF
Value: 100uF/35V/50V; Description 1: 1000uF/6,3V - 470uF/16V - 330uF - 25V; Description 2: 220uF/35V - 100uF/50V - 63V - 4,7uF/200V; Description 3: 22uF => 33uF100V - 3,3uF => 4,7uF/250V; Description 4: 2,2uF =>3,3uF/350 - 2,2uF/400V - 1uF/450V
footprint TU_HOA(100uF/35V - 470uF/16V)
footprint TU_HOA(100uF/35V - 470uF/16V)
pins: 1, 2

## TU_HOA_680_uF_25V_MH
designator C?, comment 680_uF
TU_HOA_680_uF_25V; Value: 100uF/35V/50V; Description 1: 1000uF/6,3V - 470uF/16V - 330uF - 25V; Description 2: 220uF/35V - 100uF/50V - 63V - 4,7uF/200V; Description 3: 22uF => 33uF100V - 3,3uF => 4,7uF/250V; Description 4: 2,2uF =>3,3uF/350 - 2,2uF/400V - 1uF/450V
footprint TU_HOA(100uF/35V - 470uF/16V)
footprint TU_HOA(100uF/35V - 470uF/16V)
pins: 1, 2

## TU_HOA_1000uF/6.3V_MH
designator ?, comment 1000uF/16V
Description 5: 4,7uF>10uF/250V_3,3uF>10uF/400V - 2,2uF>4,7uF/450V; Description 1: 2200uF-3300uF/6,3V - 1000uF-2200uF/10V; Description 2: 1000uF/16V - 470uF => 1000uF/25V - 100uF/100V; Description 3: 330uF>470uF/35V_220uF>470uF/50V_10uF>22uF/250V; Description 4: 220uF => 330uF/63V - 10uF =>33uF/160 - 200V; Value: 1000uF/16V
footprint TU_HOA(1000uF/16V/25V) (Tu hoa 1000uF/16V/25V)
pins: 1, 2

## TU_HOA_1000uF/16V_MH
designator ?, comment 1000uF/16V
Description 5: 4,7uF>10uF/250V_3,3uF>10uF/400V - 2,2uF>4,7uF/450V; Description 1: 2200uF-3300uF/6,3V - 1000uF-2200uF/10V; Description 2: 1000uF/16V - 470uF => 1000uF/25V - 100uF/100V; Description 3: 330uF>470uF/35V_220uF>470uF/50V_10uF>22uF/250V; Description 4: 220uF => 330uF/63V - 10uF =>33uF/160 - 200V; Value: 1000uF/16V
footprint TU_HOA_1000uF/16V
pins: 1, 2

## TU_HOA_1000uF/25V_MH
designator ?, comment 1000uF/16V
Description 5: 4,7uF>10uF/250V_3,3uF>10uF/400V - 2,2uF>4,7uF/450V; Description 1: 2200uF-3300uF/6,3V - 1000uF-2200uF/10V; Description 2: 1000uF/16V - 470uF => 1000uF/25V - 100uF/100V; Description 3: 330uF>470uF/35V_220uF>470uF/50V_10uF>22uF/250V; Description 4: 220uF => 330uF/63V - 10uF =>33uF/160 - 200V; Value: 1000uF/16V
footprint TU_HOA_1000uF/16V
footprint CP2/5 (Tu hoa 1000uF/25V,50V)
pins: 1, 2

## TU_HOA_1500uF_35V_MH
designator C?, comment 1500uF/35V
Description 5: 47uF/200V - 22uF/350V - 400V - 10uF/450V; Description 1: 4700uF-6800uF/6,3V - 3300uF-4700uF/10V; Description 2: 2200uF-3300uF/16V - 470uF => 2200uF/25V; Description 3: 1000uF/35V-50V_470uF/63V_220uF>330uF/100V; Description 4: 47uF => 100uF/160V - 33uF-47uF/250V; Value: 2200uF/16V
footprint TU_HOA(2200uF/16V-1000uF/50V)
pins: 1, 2

## TU_HOA_1800uF/6.3V_MH
designator ?, comment 1000uF/16V
Description 5: 4,7uF>10uF/250V_3,3uF>10uF/400V - 2,2uF>4,7uF/450V; Description 1: 2200uF-3300uF/6,3V - 1000uF-2200uF/10V; Description 2: 1000uF/16V - 470uF => 1000uF/25V - 100uF/100V; Description 3: 330uF>470uF/35V_220uF>470uF/50V_10uF>22uF/250V; Description 4: 220uF => 330uF/63V - 10uF =>33uF/160 - 200V; Value: 1000uF/16V
footprint TU_HOA_1000uF/16V
footprint TU_HOA(1000uF/16V/25V) (Tu hoa 1000uF/16V/25V)
pins: 1, 2

## TU_HOA_2200uF_6.3V_MH
designator C?
2200uF/6.3V; Description 5: 100uF=>220uF/200V -100uF=>330uF/350V; Description 1: 10KuF=>22KuF/6,3V - 6800uF=>15KuF/10V; Description 2: 4700uF=>10KuF/16V - 3300uF => 6800uF/25V; Description 3: 2200uF=>3300uF/50V_1KuF=>2200uF/63V; Description 4: 470uF => 1KuF/100V - 220uF-470uF/160V; Value: 2200uF/16V; Description 6: 33uF=>100/350V-400V  -  22uF=>33uF/450V
footprint CP3/7 (Tu hoa 4700uF/25V)
pins: 1, 2

## TU_HOA_2200uF_25V_MH
designator C?, comment 2200uF
2200uF_25V; Description 5: 100uF=>220uF/200V -100uF=>330uF/350V; Description 1: 10KuF=>22KuF/6,3V - 6800uF=>15KuF/10V; Description 2: 4700uF=>10KuF/16V - 3300uF => 6800uF/25V; Description 3: 2200uF=>3300uF/50V_1KuF=>2200uF/63V; Description 4: 470uF => 1KuF/100V - 220uF-470uF/160V; Value: 2200uF/16V; Description 6: 33uF=>100/350V-400V  -  22uF=>33uF/450V
footprint CP3/7 (Tu hoa 4700uF/25V)
pins: 1, 2

## TU_HOA_2200uF_35V_MH
designator C?, comment 2200uF
2200uF_35V; Description 5: 100uF=>220uF/200V -100uF=>330uF/350V; Description 1: 10KuF=>22KuF/6,3V - 6800uF=>15KuF/10V; Description 2: 4700uF=>10KuF/16V - 3300uF => 6800uF/25V; Description 3: 2200uF=>3300uF/50V_1KuF=>2200uF/63V; Description 4: 470uF => 1KuF/100V - 220uF-470uF/160V; Value: 2200uF/16V; Description 6: 33uF=>100/350V-400V  -  22uF=>33uF/450V
footprint CP3/7 (Tu hoa 4700uF/25V)
pins: 1, 2

## TU_HOA_3300uF_16V_MH
designator C?, comment 3300uF_16V
TU_HOA_3300uF_16V; Description 5: 100uF=>220uF/200V -100uF=>330uF/350V; Description 1: 10KuF=>22KuF/6,3V - 6800uF=>15KuF/10V; Description 2: 4700uF=>10KuF/16V - 3300uF => 6800uF/25V; Description 3: 2200uF=>3300uF/50V_1KuF=>2200uF/63V; Description 4: 470uF => 1KuF/100V - 220uF-470uF/160V; Value: 2200uF/16V; Description 6: 33uF=>100/350V-400V  -  22uF=>33uF/450V
footprint CP3/7 (Tu hoa 4700uF/25V)
pins: 1, 2

## TU_HOA_3300uF_50V_MH
designator C?, comment 3300uF
TU_HOA_3300uF_50V; Description 5: 100uF=>220uF/200V -100uF=>330uF/350V; Description 1: 10KuF=>22KuF/6,3V - 6800uF=>15KuF/10V; Description 2: 4700uF=>10KuF/16V - 3300uF => 6800uF/25V; Description 3: 2200uF=>3300uF/50V_1KuF=>2200uF/63V; Description 4: 470uF => 1KuF/100V - 220uF-470uF/160V; Value: 2200uF/16V; Description 6: 33uF=>100/350V-400V  -  22uF=>33uF/450V
footprint CP3/7 (Tu hoa 4700uF/25V)
pins: 1, 2

## TU_HOA_4700uF_16V_MH
designator C?, comment 4700uF/16V
Description 5: 100uF=>220uF/200V -100uF=>330uF/350V; Description 1: 10KuF=>22KuF/6,3V - 6800uF=>15KuF/10V; Description 2: 4700uF=>10KuF/16V - 3300uF => 6800uF/25V; Description 3: 2200uF=>3300uF/50V_1KuF=>2200uF/63V; Description 4: 470uF => 1KuF/100V - 220uF-470uF/160V; Value: 2200uF/16V; Description 6: 33uF=>100/350V-400V  -  22uF=>33uF/450V
footprint CP3/7 (Tu hoa 4700uF/25V)
pins: 1, 2

## TU_HOA_4700uF_25V_MH
designator C?, comment 4700uF/25V
Description 5: 100uF=>220uF/200V -100uF=>330uF/350V; Description 1: 10KuF=>22KuF/6,3V - 6800uF=>15KuF/10V; Description 2: 4700uF=>10KuF/16V - 3300uF => 6800uF/25V; Description 3: 2200uF=>3300uF/50V_1KuF=>2200uF/63V; Description 4: 470uF => 1KuF/100V - 220uF-470uF/160V; Value: 2200uF/16V; Description 6: 33uF=>100/350V-400V  -  22uF=>33uF/450V
footprint CP3/7 (Tu hoa 4700uF/25V)
pins: 1, 2

## TU_HOA_4700uF_35V_MH
designator C?, comment 4700uF/35V
Cap 4700uF/35V; Value: 4700uF/50V
footprint CP3/7 (Tu hoa 4700uF/25V)
pins: 1, 2

## TU_HOA_4700uF_50V_MH
designator C?, comment 4700uF/50V
Cap 4700uF/50V; Value: 4700uF/50V
footprint CP3/7 (Tu hoa 4700uF/25V)
pins: 1, 2

## TU_LOC_220_MH(0.1uF)
designator C?, comment 0,1uF/300V
Designed by: VanDungEvn; Value: 0,1uF/300V
footprint CN (Tu loc 220)
footprint TU LOC 220(0,1uF) (Tu loc 220)
pins: 1, 2

## TU_MICA _0.47uF_305_MH
designator ?, comment 104
TU_MICA _0.47uF_305_MH; Value: 0.1uF
footprint TU_MICA_10_MH
pins: 1, 2

## TU_MICA_33nF_400V
designator *
pins: 1, 2

## TU_MICA_33nF_400V_MH
designator ?, comment 33nF_400V
TU_MICA_33nF_400V_MH; Value: 0.1uF
footprint TU_MICA_5_MH
pins: 1, 2

## TU_MICA_102_100V
designator ?, comment 104
Value: 0.1uF
footprint TU_GOM(104-->105pF)
pins: 1, 2

## TU_MICA_224-0.22uF 300V_MH
designator ?, comment 104
TU_MICA_224-0.22uF 300V_MH; Value: 0.1uF
footprint TU_MICA_10_MH
pins: 1, 2

## TU_MICA_ 0.22uF_275V_MH
designator ?, comment 0.22
TU_0.22uF 275V PA224-Z-NT; Value: 0.1uF
footprint TU_MICA_10_MH
pins: 1, 2

## TU_MICA_ 103 100V(2A103J)_MH
designator ?, comment 104
Value: 0.1uF
footprint TU_GOM(104-->105pF)
pins: 1, 2

## TU_MICA_ 104 100V(2A104J)_MH
designator ?, comment 104
Value: 0.1uF
footprint TU_GOM(104-->105pF)
pins: 1, 2

## TU_MICA_ 222 100V ( 2A222J)_MH
designator ?, comment 222
Value: 0.1uF
footprint TU_GOM(104-->105pF)
pins: 1, 2

## TU_MICA_ 223 100V ( 2A223J)_MH
designator ?, comment 104
Value: 0.1uF
footprint TU_GOM(104-->105pF)
pins: 1, 2

## TU_MICA_ 333 100V ( 2A333J)_MH
designator ?, comment 104
Value: 0.1uF
footprint TU_GOM(104-->105pF)
pins: 1, 2

## TU_MICA_ 471 100V ( 2A471J)_MH
designator ?
TU_MICA_ 471 100V ( 2A471J)_MH; Value: 0.1uF
footprint TU_MICA_6_MH
pins: 1, 2

## TU_MICA_ 471 100V ( 2A471J)_MH_1
designator ?
TU_MICA_ 471 100V ( 2A471J)_MH; Value: 0.1uF
footprint TU_MICA_6_MH
pins: 1, 2

## TU_MICA_ 472_100V ( 2A472J)_MH
designator ?
TU_MICA_ 472 100V ( 2A472J)_MH; Value: 0.1uF
footprint TU_MICA_6_MH
pins: 1, 2

## TU_MICA_ 473 100V ( 2A473J)_MH
designator ?
TU_MICA_ 473 100V ( 2A473J)_MH; Value: 0.1uF
footprint TU_MICA_6_MH
pins: 1, 2

## TU_NHOM_2.2uF_50V_MH
designator C?, comment 2.2uF
TU_NHOM_2.2uF_50V_MH; Value: 10uF/50V; Description 1: 10 => 220uF/6,3V/10V - 10uF => 100uF/16V; Description 2: 0,1uF => 33uF/50V - 10uF => 22uF/63V; Description 3: 0,47uF => 10uF/100V
footprint TU_NHOM_1.5
pins: 1, 2
1 alternate drawing of the same symbol

## TU_NHOM_4.7uF_25V_MH
designator C?, comment 4.7uF
TU_NHOM_4.7uF_25V_MH; Value: 47uF/16 - 50V; Description 1: 470uF/6,3V - 330uF/10V - 220uF/16V; Description 2: 100uF/25V - 35V - 47uF/50V - 22uF/100V; Description 3: 33uF => 47uF/63V - 1uF => 4,7uF/160V; Description 4: 1uF => 2,2uF/250V - 1uF/350V
footprint TU_NHOM_4.7uF_MH
pins: 1, 2

## TU_NHOM_10uF_25V_MH
designator C?, comment 10uF
TU_NHOM_10uF_25V_MH; Value: 47uF/16 - 50V; Description 1: 470uF/6,3V - 330uF/10V - 220uF/16V; Description 2: 100uF/25V - 35V - 47uF/50V - 22uF/100V; Description 3: 33uF => 47uF/63V - 1uF => 4,7uF/160V; Description 4: 1uF => 2,2uF/250V - 1uF/350V
footprint TU_NHOM_10uF_MH
pins: 1, 2

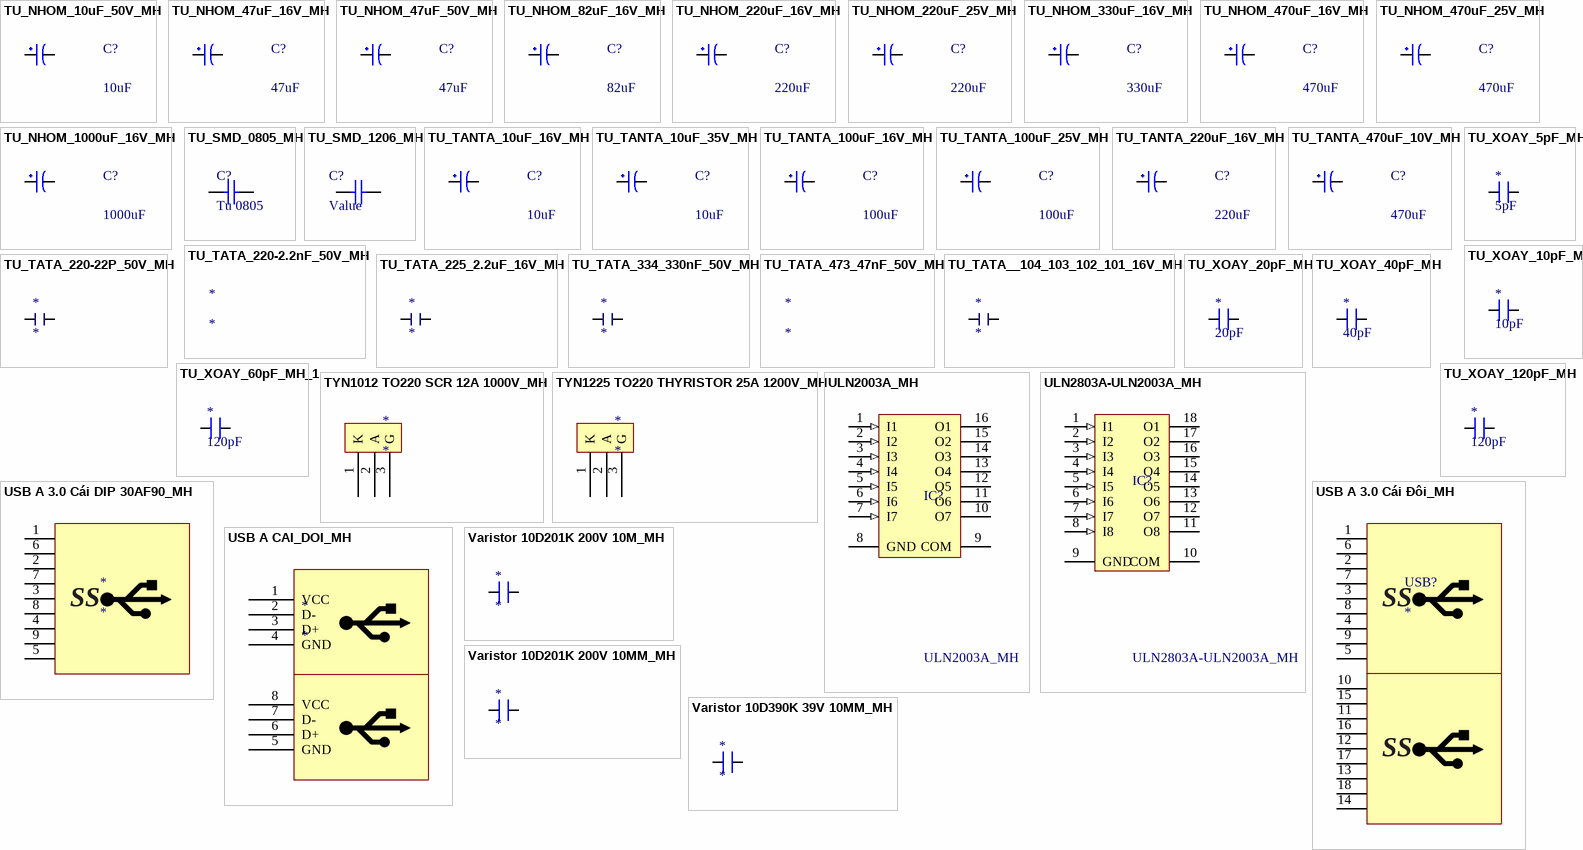
[diagram p39: symbols TU_NHOM_10uF_50V_MH to Varistor 10D390K 39V 10MM_MH]

## TU_NHOM_10uF_50V_MH
designator C?, comment 10uF
TU_NHOM_10uF_50V_MH; Value: 10uF/50V; Description 1: 10 => 220uF/6,3V/10V - 10uF => 100uF/16V; Description 2: 0,1uF => 33uF/50V - 10uF => 22uF/63V; Description 3: 0,47uF => 10uF/100V
footprint TU_NHOM_1.5
pins: 1, 2
1 alternate drawing of the same symbol

## TU_NHOM_47uF_16V_MH
designator C?, comment 47uF
TU_NHOM_47uF_16V; Value: 47uF/16 - 50V; Description 1: 470uF/6,3V - 330uF/10V - 220uF/16V; Description 2: 100uF/25V - 35V - 47uF/50V - 22uF/100V; Description 3: 33uF => 47uF/63V - 1uF => 4,7uF/160V; Description 4: 1uF => 2,2uF/250V - 1uF/350V
footprint TU_NHOM_1.5
pins: 1, 2

## TU_NHOM_47uF_50V_MH
designator C?, comment 47uF
TU_NHOM_47uF_50V_MH; Value: 47uF/16 - 50V; Description 1: 470uF/6,3V - 330uF/10V - 220uF/16V; Description 2: 100uF/25V - 35V - 47uF/50V - 22uF/100V; Description 3: 33uF => 47uF/63V - 1uF => 4,7uF/160V; Description 4: 1uF => 2,2uF/250V - 1uF/350V
footprint TU_NHOM_2.5_MH
pins: 1, 2

## TU_NHOM_82uF_16V_MH
designator C?, comment 82uF
TU_NHOM_82uF_16V; Value: 47uF/16 - 50V; Description 1: 470uF/6,3V - 330uF/10V - 220uF/16V; Description 2: 100uF/25V - 35V - 47uF/50V - 22uF/100V; Description 3: 33uF => 47uF/63V - 1uF => 4,7uF/160V; Description 4: 1uF => 2,2uF/250V - 1uF/350V
footprint TU_NHOM_3_MH
pins: 1, 2

## TU_NHOM_220uF_16V_MH
designator C?, comment 220uF
TU_NHOM_220uF_16V_MH; Value: 47uF/16 - 50V; Description 1: 470uF/6,3V - 330uF/10V - 220uF/16V; Description 2: 100uF/25V - 35V - 47uF/50V - 22uF/100V; Description 3: 33uF => 47uF/63V - 1uF => 4,7uF/160V; Description 4: 1uF => 2,2uF/250V - 1uF/350V
footprint TU_NHOM_2_MH
pins: 1, 2

## TU_NHOM_220uF_25V_MH
designator C?, comment 220uF
TU_NHOM_220uF_25V_MH; Value: 47uF/16 - 50V; Description 1: 470uF/6,3V - 330uF/10V - 220uF/16V; Description 2: 100uF/25V - 35V - 47uF/50V - 22uF/100V; Description 3: 33uF => 47uF/63V - 1uF => 4,7uF/160V; Description 4: 1uF => 2,2uF/250V - 1uF/350V
footprint TU_NHOM_2.5_MH
pins: 1, 2

## TU_NHOM_330uF_16V_MH
designator C?, comment 330uF
TU_NHOM_330uF_16V_MH; Value: 47uF/16 - 50V; Description 1: 470uF/6,3V - 330uF/10V - 220uF/16V; Description 2: 100uF/25V - 35V - 47uF/50V - 22uF/100V; Description 3: 33uF => 47uF/63V - 1uF => 4,7uF/160V; Description 4: 1uF => 2,2uF/250V - 1uF/350V
footprint TU_NHOM_220uF_25V_MH
pins: 1, 2

## TU_NHOM_470uF_16V_MH
designator C?, comment 470uF
TU_NHOM_470uF_16V_MH; Value: 47uF/16 - 50V; Description 1: 470uF/6,3V - 330uF/10V - 220uF/16V; Description 2: 100uF/25V - 35V - 47uF/50V - 22uF/100V; Description 3: 33uF => 47uF/63V - 1uF => 4,7uF/160V; Description 4: 1uF => 2,2uF/250V - 1uF/350V
footprint TU_NHOM_220uF_25V_MH
pins: 1, 2

## TU_NHOM_470uF_25V_MH
designator C?, comment 470uF
TU_NHOM_470uF_25V_MH; Value: 47uF/16 - 50V; Description 1: 470uF/6,3V - 330uF/10V - 220uF/16V; Description 2: 100uF/25V - 35V - 47uF/50V - 22uF/100V; Description 3: 33uF => 47uF/63V - 1uF => 4,7uF/160V; Description 4: 1uF => 2,2uF/250V - 1uF/350V
footprint TU_NHOM_470uF_25V_MH
pins: 1, 2

## TU_NHOM_1000uF_16V_MH
designator C?, comment 1000uF
TU_NHOM_1000uF_16V_MH; Value: 47uF/16 - 50V; Description 1: 470uF/6,3V - 330uF/10V - 220uF/16V; Description 2: 100uF/25V - 35V - 47uF/50V - 22uF/100V; Description 3: 33uF => 47uF/63V - 1uF => 4,7uF/160V; Description 4: 1uF => 2,2uF/250V - 1uF/350V
footprint TU_NHOM_470uF_25V_MH
pins: 1, 2

## TU_SMD_0805_MH
designator C?, comment Tu 0805
footprint TU_SMD_0805
pins: 1, 2

## TU_SMD_1206_MH
designator C?, comment Value
footprint TU_SMD_1206
pins: 1, 2

## TU_TANTA_10uF_16V_MH
designator C?, comment 10uF
Tụ Tantalum 106C-10UF 16V; Value: 47uF/16 - 50V; Description 1: 470uF/6,3V - 330uF/10V - 220uF/16V; Description 2: 100uF/25V - 35V - 47uF/50V - 22uF/100V; Description 3: 33uF => 47uF/63V - 1uF => 4,7uF/160V; Description 4: 1uF => 2,2uF/250V - 1uF/350V
footprint TU_TATA_SMD3216
pins: 1, 2

## TU_TANTA_10uF_35V_MH
designator C?, comment 10uF
Tụ Tantalum 106C-10UF 35V; Value: 47uF/16 - 50V; Description 1: 470uF/6,3V - 330uF/10V - 220uF/16V; Description 2: 100uF/25V - 35V - 47uF/50V - 22uF/100V; Description 3: 33uF => 47uF/63V - 1uF => 4,7uF/160V; Description 4: 1uF => 2,2uF/250V - 1uF/350V
footprint TU_TATA_SMD7343
pins: 1, 2

## TU_TANTA_100uF_16V_MH
designator C?, comment 100uF
Tụ Tantalum 107C-100uF 16V; Value: 47uF/16 - 50V; Description 1: 470uF/6,3V - 330uF/10V - 220uF/16V; Description 2: 100uF/25V - 35V - 47uF/50V - 22uF/100V; Description 3: 33uF => 47uF/63V - 1uF => 4,7uF/160V; Description 4: 1uF => 2,2uF/250V - 1uF/350V
footprint TU_TATA_SMD7343
pins: 1, 2

## TU_TANTA_100uF_25V_MH
designator C?, comment 100uF
Tụ Tantalum 107E-100uF 25V; Value: 47uF/16 - 50V; Description 1: 470uF/6,3V - 330uF/10V - 220uF/16V; Description 2: 100uF/25V - 35V - 47uF/50V - 22uF/100V; Description 3: 33uF => 47uF/63V - 1uF => 4,7uF/160V; Description 4: 1uF => 2,2uF/250V - 1uF/350V
footprint TU_TATA_SMD7343
pins: 1, 2

## TU_TANTA_220uF_16V_MH
designator C?, comment 220uF
Tụ Tantalum 227C-220uF 16V; Value: 47uF/16 - 50V; Description 1: 470uF/6,3V - 330uF/10V - 220uF/16V; Description 2: 100uF/25V - 35V - 47uF/50V - 22uF/100V; Description 3: 33uF => 47uF/63V - 1uF => 4,7uF/160V; Description 4: 1uF => 2,2uF/250V - 1uF/350V
footprint TU_TATA_SMD7343
pins: 1, 2

## TU_TANTA_470uF_10V_MH
designator C?, comment 470uF
Tụ Tantalum 477A-470uF 10V; Value: 47uF/16 - 50V; Description 1: 470uF/6,3V - 330uF/10V - 220uF/16V; Description 2: 100uF/25V - 35V - 47uF/50V - 22uF/100V; Description 3: 33uF => 47uF/63V - 1uF => 4,7uF/160V; Description 4: 1uF => 2,2uF/250V - 1uF/350V
footprint TU_TATA_SMD7343
pins: 1, 2

## TU_TATA_220-2.2nF_50V_MH
designator *
TU_TATA_220-2.2nF_50V_MH
footprint TU_TATA_5.08

## TU_TATA_220-22P_50V_MH
designator *
footprint TU_TATA_5.08
pins: 1, 2

## TU_TATA_225_2.2uF_16V_MH
designator *
Tụ Tantalum 225uF-2.2uF
footprint TU_TATA_2.54
pins: 1, 2

## TU_TATA_334_330nF_50V_MH
designator *
Tụ Tantalum 334-330nF 50V
footprint TU_TATA_5.08
pins: 1, 2

## TU_TATA_473_47nF_50V_MH
designator *
Tụ Tantalum 473-47nF 50V
footprint TU_TATA_5.08

## TU_TATA__104_103_102_101_16V_MH
designator *
Tụ Tantalum 104 103 102 101 16V
footprint TU_TATA_5.08
pins: 1, 2

## TU_XOAY_5pF_MH
designator *, comment 5pF
TU_XOAY_5pF_MH
footprint TU_XOAY_6M
pins: 1, 2

## TU_XOAY_10pF_MH
designator *, comment 10pF
TU_XOAY_10pF_MH
footprint TU_XOAY_6M
pins: 1, 2

## TU_XOAY_20pF_MH
designator *, comment 20pF
TU_XOAY_20pF_MH
footprint TU_XOAY_6M
pins: 1, 2

## TU_XOAY_40pF_MH
designator *, comment 40pF
TU_XOAY_40pF_MH
footprint TU_XOAY_6M
pins: 1, 2

## TU_XOAY_60pF_MH_1
designator *, comment 120pF
TU_XOAY_60pF_MH
footprint TU_XOAY_6M
pins: 1, 2

## TU_XOAY_120pF_MH
designator *, comment 120pF
TU_XOAY_120pF_MH
footprint TU_XOAY_6M
pins: 1, 2

## TYN1012 TO220 SCR 12A 1000V_MH
designator *
footprint TO220
pins: 1 K, 2 A, 3 G

## TYN1225 TO220 THYRISTOR 25A 1200V_MH
designator *
footprint TO220
pins: 1 K, 2 A, 3 G

## ULN2003A_MH
designator IC?
High-Voltage, High-Current Darlington Array; LatestRevisionNote: Stylized 3D Model Added.; Publisher: Altium Limited; Value: ULN2003A
footprint DIP16 (16 PIN, W 300mil, Pin to pin 100mil)
footprint SO-16 (SOIC, 16-Leads, Body 9.9x3.9mm, Pitch 1.27mm, IPC Medium Density)
pins: 1 I1 (in), 2 I2 (in), 3 I3 (in), 4 I4 (in), 5 I5 (in), 6 I6 (in), 7 I7 (in), 8 GND (power), 9 COM, 10 O7 (oc), 11 O6 (oc), 12 O5 (oc), 13 O4 (oc), 14 O3 (oc), 15 O2 (oc), 16 O1 (oc)

## ULN2803A-ULN2003A_MH
designator IC?
High-Voltage, High-Current Darlington Array; LatestRevisionNote: Stylized 3D Model Added.; Publisher: Altium Limited; Value: ULN2803A
footprint DIP18 (18 PIN, W 300mil, Pin to pin 100mil)
pins: 1 I1 (in), 2 I2 (in), 3 I3 (in), 4 I4 (in), 5 I5 (in), 6 I6 (in), 7 I7 (in), 8 I8 (in), 9 GND (power), 10 COM, 11 O8 (oc), 12 O7 (oc), 13 O6 (oc), 14 O5 (oc), 15 O4 (oc), 16 O3 (oc), 17 O2 (oc), 18 O1 (oc)

## USB A 3.0 Cái DIP 30AF90_MH
designator *
footprint USB 3.0_1
pins: 1, 2, 3, 4, 5, 6, 7, 8, 9
text: SS

## USB A 3.0 Cái Đôi_MH
designator USB?
footprint USB 3.0 KEP
pins: 1, 2, 3, 4, 5, 6, 7, 8, 9, 10 1, 11 2, 12 3, 13 4, 14 5, 15 6, 16 7, 17 8, 18 9
text: SS

## USB A CAI_DOI_MH
designator *
footprint USB_KEP
pins: 1 VCC, 2 D-, 3 D+, 4 GND, 5 GND, 6 D+, 7 D-, 8 VCC

## Varistor 10D201K 200V 10M_MH
designator *
footprint VARSISTOR_10D_14D (VARSISTOR_10D)
pins: 1, 2

## Varistor 10D201K 200V 10MM_MH
designator *
footprint VARSISTOR_10D_14D (VARSISTOR_10D)
pins: 1, 2

## Varistor 10D390K 39V 10MM_MH
designator *
footprint VARSISTOR_10D_14D (VARSISTOR_10D)
pins: 1, 2

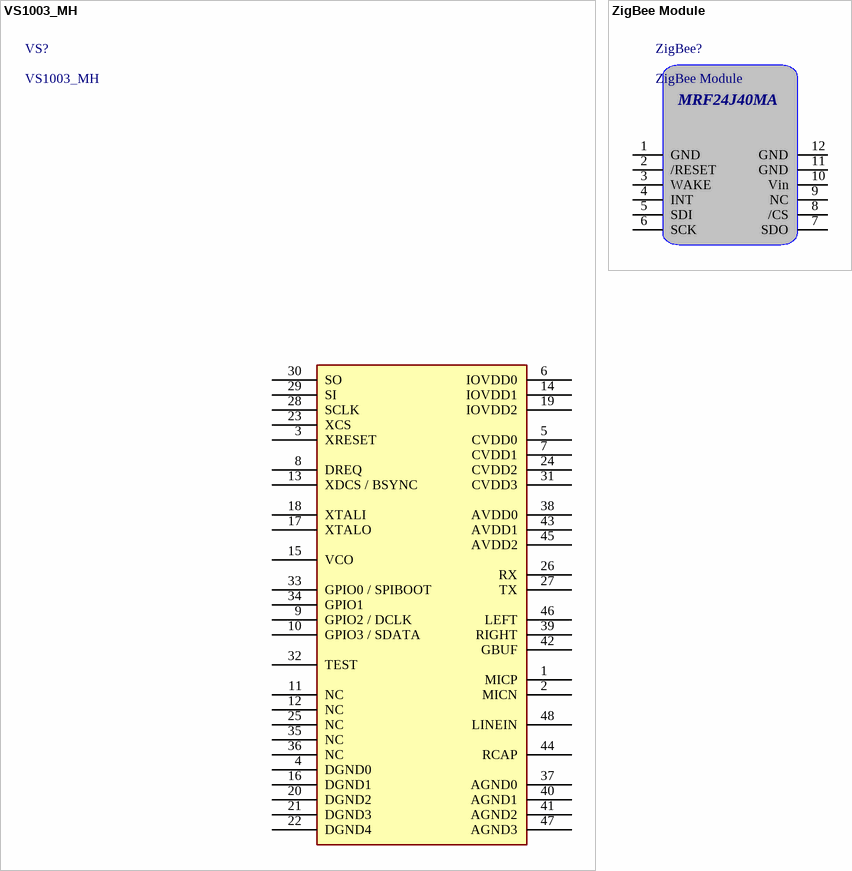
[diagram p40: symbols VS1003_MH to ZigBee Module]

## VS1003_MH
designator VS?
footprint LQFP48
pins: 1 MICP, 2 MICN, 3 XRESET, 4 DGND0, 5 CVDD0, 6 IOVDD0, 7 CVDD1, 8 DREQ, 9 GPIO2 / DCLK, 10 GPIO3 / SDATA, 11 NC, 12 NC, 13 XDCS / BSYNC, 14 IOVDD1, 15 VCO, 16 DGND1, 17 XTALO, 18 XTALI, 19 IOVDD2, 20 DGND2, 21 DGND3, 22 DGND4, 23 XCS, 24 CVDD2, 25 NC, 26 RX, 27 TX, 28 SCLK, 29 SI, 30 SO, 31 CVDD3, 32 TEST, 33 GPIO0 / SPIBOOT, 34 GPIO1, 35 NC, 36 NC, 37 AGND0, 38 AVDD0, 39 RIGHT, 40 AGND1, 41 AGND2, 42 GBUF, 43 AVDD1, 44 RCAP, 45 AVDD2, 46 LEFT, 47 AGND3, 48 LINEIN

## ZigBee Module
designator ZigBee?
MRF24J40MA 2.4GHz IEEE 802.15.4 RF Transceiver Module
footprint ZigBee
pins: 1 GND, 2 /RESET, 3 WAKE, 4 INT, 5 SDI, 6 SCK, 7 SDO, 8 /CS, 9 NC, 10 Vin, 11 GND, 12 GND
text: MRF24J40MA